# EAGLE library part 744-8 (library resistor-array)
CTS 744 Series 4 Resistors, 8 Terminations
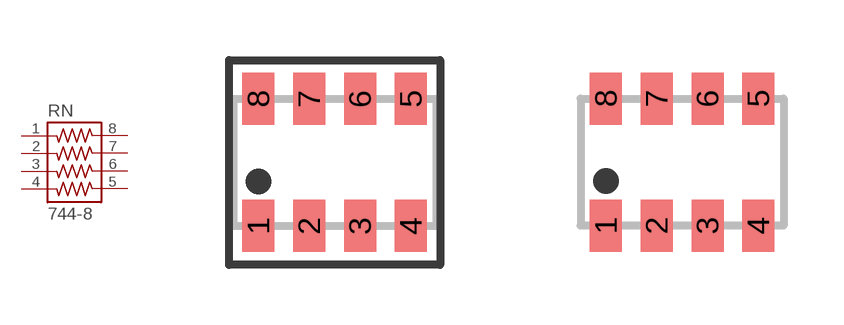
[diagram p0: symbol with the pads of 744-8; footprints 744-8, 744-8NS]

Designator prefix RN

## 744-8  [744-8]
1  1  pas
2  2  pas
3  3  pas
4  4  pas
5  5  pas
6  6  pas
7  7  pas
8  8  pas

## 744-8NS  [744-8NS]
Pads as for 744-8

## Footprint 744-8 (pad centres in mm)
CTS 744 Series 8 Terminations, 4 Resistors
smd 0.8 x 1.3: 1 -1.905,-1.587; 2 -0.635,-1.587; 3 0.635,-1.587; 4 1.905,-1.587; 5 1.905,1.587; 6 0.635,1.587; 7 -0.635,1.587; 8 -1.905,1.587

## Footprint 744-8NS (pad centres in mm)
CTS 744 Series 8 Terminations, 4 Resistors
smd 0.8 x 1.3: 1 -1.905,-1.587; 2 -0.635,-1.587; 3 0.635,-1.587; 4 1.905,-1.587; 5 1.905,1.587; 6 0.635,1.587; 7 -0.635,1.587; 8 -1.905,1.587